# Altium footprint library led_PcbLib.PcbLib: 3 footprints
Each footprint in its own frame and in the unit in brackets; x right, y up, seen from the top. Pads: shape width x height; smd on the part's side, far side on the other; paste and mask are expansions set on the pad; w line width, h text height; cw(c..) or ccw(c..) is an arc to the next point about the centre after c.
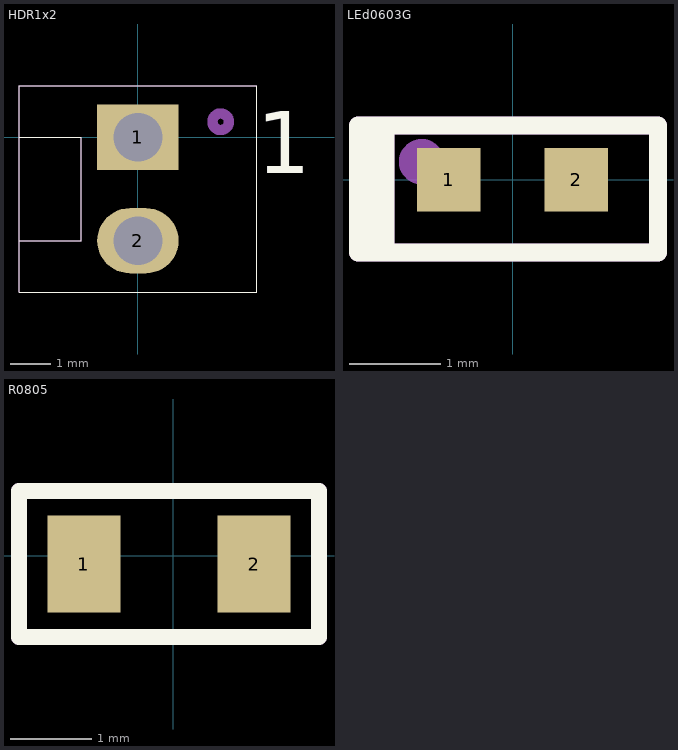
[diagram p0: the footprints below, top view; thin cyan lines are the x and y axes]

## HDR1x2 [mm]
pads (2):
  rect 2x1.6 hole 1.2: 1(0,0)
  oval 2x1.6 hole 1.2: 2(0,-2.54)
Top Overlay:
  lines w0.005: -2.921,-2.54 -1.397,-2.54 -1.397,0 -2.921,0 ; -2.921,-3.81 2.921,-3.81 2.921,1.27 -2.921,1.27 -2.921,-3.81
  text "1" at 2.921,-0.889 h1.52
Top Assembly:
  circle w0.254: c2.032,0.381 r0.203
  lines w0.005: -2.921,-2.54 -1.397,-2.54 -1.397,0 -2.921,0 ; -2.921,-3.81 2.921,-3.81 2.921,1.27 -2.921,1.27 -2.921,-3.81
  text "1" at 2.921,-0.889 h1.52
  text "'.Designator'" at -8.252,-2.793 h1.2
3D body "022272021.stp": height 11.71, standoff -3.55, extent -2.9,-3.81 2.9,1.27

## LEd0603G [mm]
pads (2):
  rect 0.7x0.7 smd: 1(-0.7,0) 2(0.7,0)
Top Overlay:
  rectangle: -1.7,-0.8 -1.3,0.6
  lines w0.2: -1.7,-0.8 -1.7,0.6 1.6,0.6 1.6,-0.8 -1.7,-0.8
Top Assembly:
  circle w0.3: c-1,0.2 r0.1
  rectangle: -1.7,-0.8 -1.3,0.6
  lines w0.2: -1.7,-0.8 -1.7,0.6 1.6,0.6 1.6,-0.8 -1.7,-0.8
  text "'.Designator'" at -13.431,-0.3 h0.7
3D body "LSM0603453V.STEP": height 0.59, standoff 0.01, extent -0.8,-0.4 0.8,0.4

## R0805 [mm]
pads (2):
  rect 0.9x1.2 smd: 1(-1.1,-0.1) 2(1,-0.1)
Top Overlay:
  lines w0.2: -1.9,-1 -1.9,0.8 -0.975,0.8 0.875,0.8 1.8,0.8 1.8,-1 -1.9,-1
Top Assembly:
  lines w0.2: -1.9,-1 -1.9,0.8 -0.975,0.8 0.875,0.8 1.8,0.8 1.8,-1 -1.9,-1
  text "'.Designator'" at -13.431,-0.5 h0.7
3D body "RESC2012X60N.step": height 0.61, standoff 0.01, extent -1.1,-0.725 0.9,0.525